# Altium footprint library 20mm Battery Holder TH.PcbLib: 1 footprints
Each footprint in its own frame and in the unit in brackets; x right, y up, seen from the top. Pads: shape width x height; smd on the part's side, far side on the other; paste and mask are expansions set on the pad; w line width, h text height; cw(c..) or ccw(c..) is an arc to the next point about the centre after c.
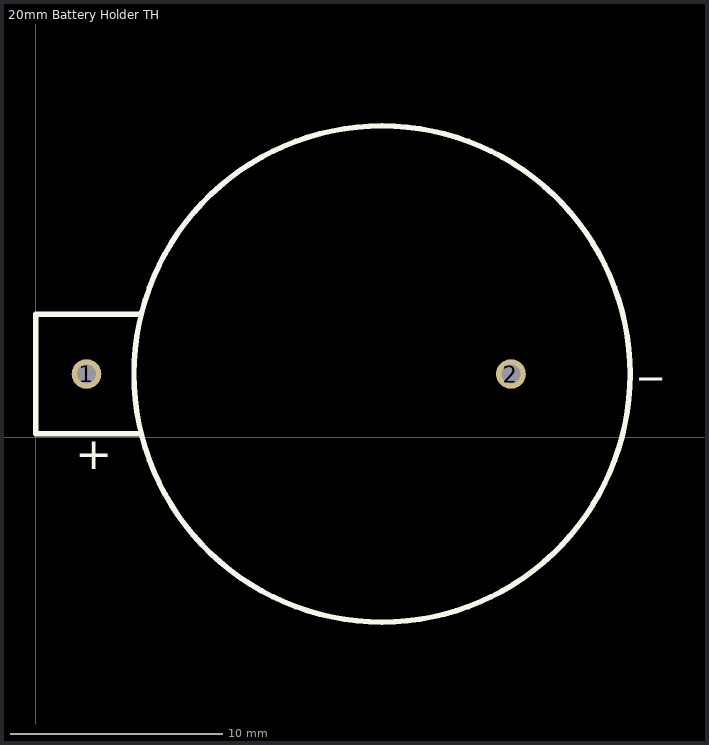
[diagram p0: the footprint, top view; thin cyan lines are the x and y axes]

## 20mm Battery Holder TH [mil] "Test Point"
height 1
pads (2):
  round 55 hole 35: 1(94,117.5) 2(881,117.5)
TopOverlay:
  circle w10: c642,117.5 r460
  lines w10: 195,7 0,7 0,228 195,228
  text "+" at 73,-59 h60
  text "_" at 1120,124 h60
BottomOverlay:
  text "_" at 1120,124 h60
  text "+" at 73,-59 h60
3D body: height 264, standoff -221, extent 6,-336 1095,570